# Altium footprint library imu.PcbLib: 43 footprints (part 1 of 3)
Each footprint in its own frame and in the unit in brackets; x right, y up, seen from the top. Pads: shape width x height; smd on the part's side, far side on the other; paste and mask are expansions set on the pad; w line width, h text height; cw(c..) or ccw(c..) is an arc to the next point about the centre after c.
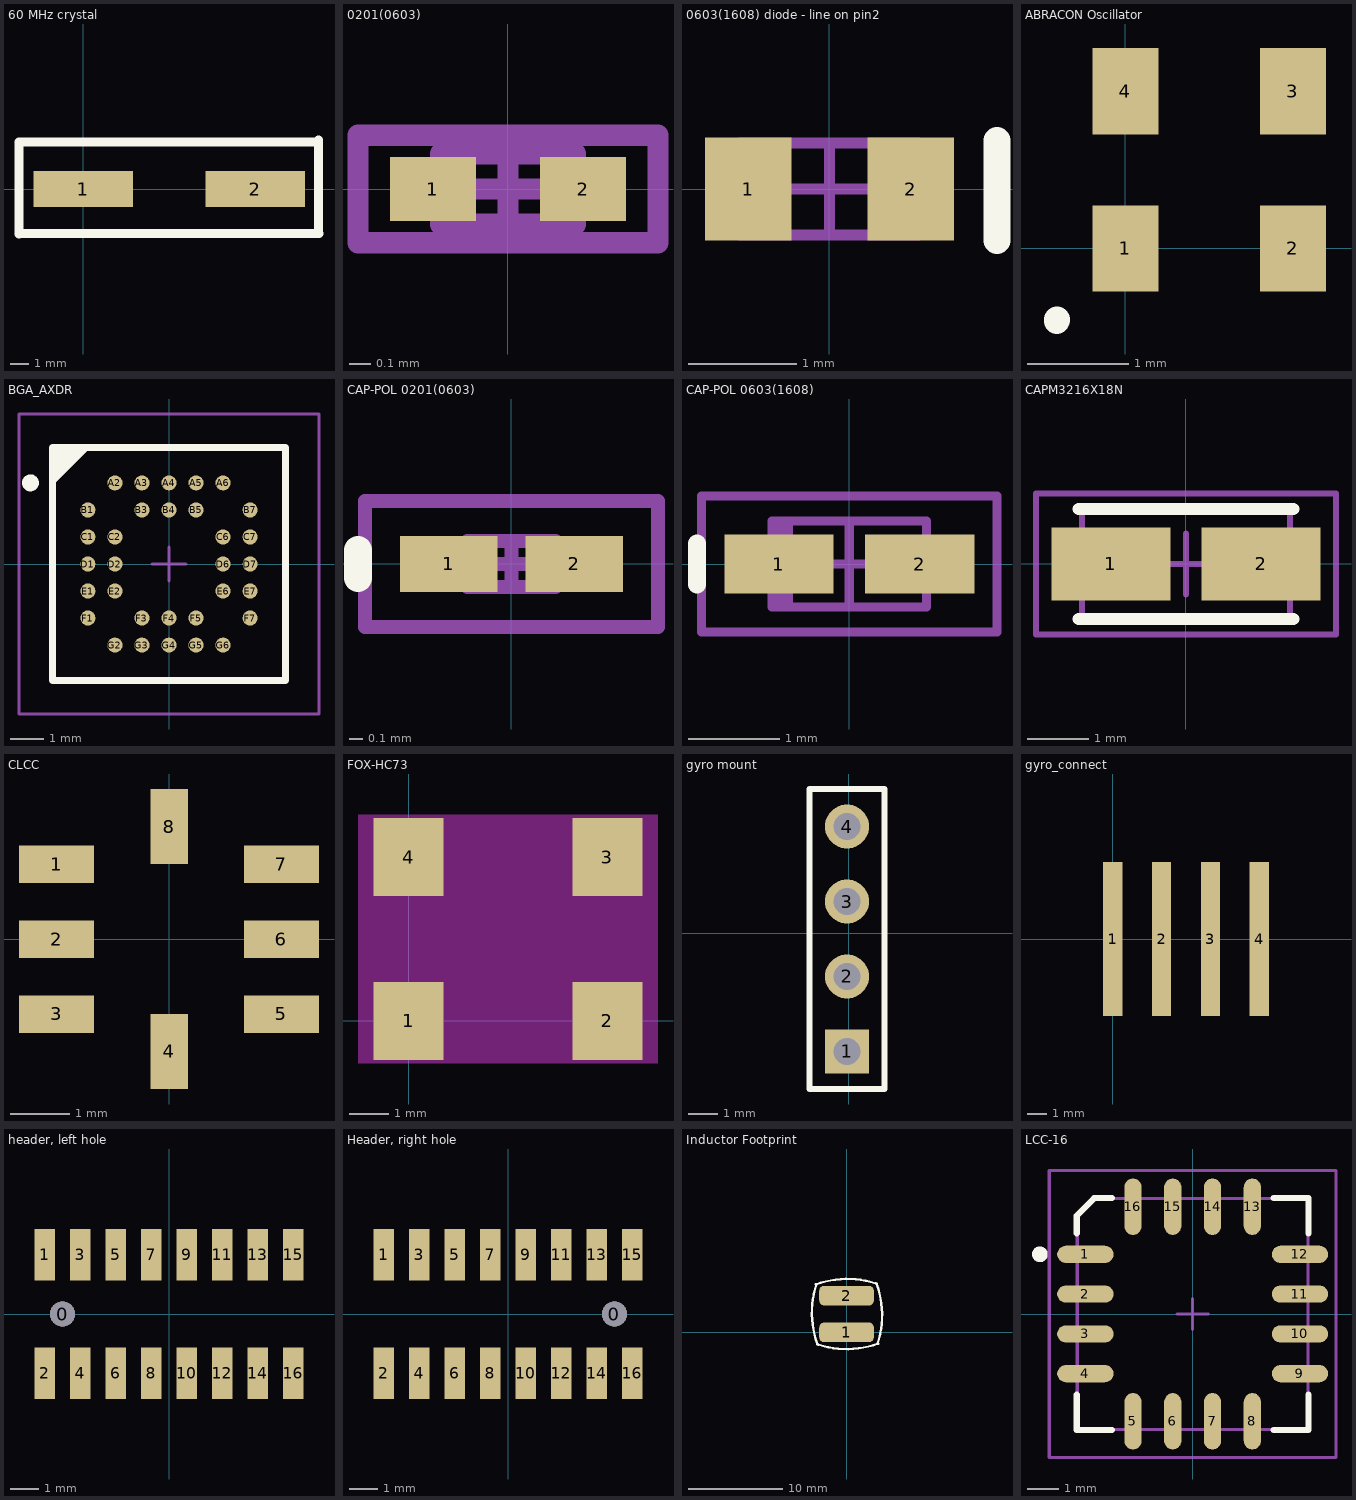
[diagram p0: the footprints below, top view; thin cyan lines are the x and y axes]

## 60 MHz crystal [mm] "887-1078-1-ND"
height 4
pads (2):
  rect 5.5x2 smd: 1(0,0) 2(9.5,0)
Top Overlay:
  lines w0.5: -3.55,-2.475 -3.525,-2.45 13.025,-2.45 13,-2.425 13,2.7 12.9,2.6 -3.55,2.6 -3.55,-2.475
3D body: height 4, standoff 0, extent -1.45,-2.475 10.85,2.425

## 0201(0603) [mm] "Chip 2-Leads, Body 0.6x0.3mm, IPC High Density"
height 0.26
pads (2):
  rect 0.4x0.3 smd: 1(-0.35,0) 2(0.35,0)
Mechanical 13:
  lines w0.1: -0.315,-0.165 -0.315,0.165 0.315,0.165 0.315,-0.165 -0.315,-0.165
Mechanical 15:
  lines w0.1: -0.165,0 0.165,0 ; 0,-0.165 0,0.165 ; -0.7,-0.25 -0.7,0.25 0.7,0.25 0.7,-0.25 -0.7,-0.25
3D body: height 0.26, standoff 0, extent -0.315,-0.165 0.315,0.165

## 0603(1608) diode - line on pin2 [mm]
height 1
pads (2):
  rect 0.8x0.95 smd mask+0: 1(-0.75,0) 2(0.75,0)
Top Overlay:
  lines w0.25: 1.55,-0.475 1.55,0.45
Mechanical 13:
  lines w0.1: -0.825,-0.425 -0.825,0.425 0.825,0.425 0.825,-0.425 -0.825,-0.425
Mechanical 15:
  lines w0.1: -0.425,0 0.425,0 ; 0,-0.425 0,0.425
3D body: height 0.55, standoff 0, extent 0.475,-0.425 0.775,0.425
3D body: height 0.55, standoff 0, extent -0.775,-0.425 -0.475,0.425
3D body: height 0.53, standoff 0.03, extent -0.525,-0.412 0.525,0.413

## ABRACON Oscillator [mm]
pads (4):
  rect 0.65x0.85 smd: 1(0,0) 2(1.65,0) 3(1.65,1.55) 4(0,1.55)
Top Overlay:
  lines w0.254: -0.676,-0.714 ccw(c-0.778,-0.7) -0.675,-0.7
3D body: height 0.85, standoff 0, extent -0.48,-0.36 2.195,1.91

## BGA_AXDR [mm] "From AXDRS622 Datasheet"
height 3.8
pads (32):
  round 0.45 smd: A2(-1.6,2.4) A3(-0.8,2.4) A4(0,2.4) A5(0.8,2.4) A6(1.6,2.4) B1(-2.4,1.6) B3(-0.8,1.6) B4(0,1.6) B5(0.8,1.6) B7(2.4,1.6) C1(-2.4,0.8) C2(-1.6,0.8) C6(1.6,0.8) C7(2.4,0.8) D1(-2.4,0) D2(-1.6,0) D6(1.6,0) D7(2.4,0) E1(-2.4,-0.8) E2(-1.6,-0.8) E6(1.6,-0.8) E7(2.4,-0.8) F1(-2.4,-1.6) F3(-0.8,-1.6) F4(0,-1.6) F5(0.8,-1.6) F7(2.4,-1.6) G2(-1.6,-2.4) G3(-0.8,-2.4) G4(0,-2.4) G5(0.8,-2.4) G6(1.6,-2.4)
Top Overlay:
  circle w0.25: c-4.1,2.4 r0.125
  region: -2.45,3.45 -3.45,2.45 -3.45,3.45
  lines w0.2: -3.45,2.45 -2.45,3.45 ; -3.45,-3.45 -3.45,3.45 3.45,3.45 3.45,-3.45 -3.45,-3.45
Mechanical 13:
  lines w0.1: -3.45,-3.45 -3.45,3.45 3.45,3.45 3.45,-3.45 -3.45,-3.45
Mechanical 15:
  lines w0.1: -0.5,0 0.5,0 ; 0,-0.5 0,0.5 ; -4.437,-4.437 -4.437,4.437 4.437,4.437 4.437,-4.437 -4.437,-4.437
3D body: height 3.8, standoff 0.6, extent -3.45,-3.45 3.45,3.45

## CAP-POL 0201(0603) [mm] "Chip Capacitor, 2-Leads, Body 0.6x0.3mm, IPC Medium Density"
height 0.6
pads (2):
  rect 0.7x0.4 smd: 1(-0.45,0) 2(0.45,0)
Top Overlay:
  lines w0.2: -1.1,-0.1 -1.1,0.1
Mechanical 13:
  lines w0.1: -0.315,-0.165 0.315,-0.165 0.315,0.165 -0.315,0.165 -0.315,-0.165
Mechanical 15:
  lines w0.1: -0.165,0 0.165,0 ; 0,-0.165 0,0.165 ; -1.05,-0.45 1.05,-0.45 1.05,0.45 -1.05,0.45 -1.05,-0.45
3D body: height 0.6, standoff 0, extent -0.315,-0.165 0.315,0.165

## CAP-POL 0603(1608) [mm] "Molded Capacitor, 2-Leads, Body 1.6x0.8mm, IPC Medium Density"
height 0.9
pads (2):
  rect 1.2x0.65 smd: 1(-0.775,0) 2(0.775,0)
Top Overlay:
  lines w0.2: -1.675,-0.225 -1.675,0.225
Mechanical 13:
  rectangle: -0.85,-0.475 -0.621,0.475
  lines w0.1: -0.85,-0.475 0.85,-0.475 0.85,0.475 -0.85,0.475 -0.85,-0.475
Mechanical 15:
  lines w0.1: -0.475,0 0.475,0 ; 0,-0.475 0,0.475 ; -1.625,-0.75 1.625,-0.75 1.625,0.75 -1.625,0.75 -1.625,-0.75
3D body: height 0.9, standoff 0, extent -0.85,-0.475 0.85,0.475

## CAPM3216X18N [mm] "Molded Capacitor, 2-Leads, Body 3.2x1.6mm, IPC Medium Density"
height 1.8
pads (2):
  rect 1.95x1.2 smd: 1(-1.225,0) 2(1.225,0)
Top Overlay:
  lines w0.2: -1.75,-0.9 1.75,-0.9 ; -1.75,0.9 1.75,0.9
Mechanical 13:
  lines w0.1: -1.7,-0.9 -1.7,0.9 1.7,0.9 1.7,-0.9 -1.7,-0.9
Mechanical 15:
  lines w0.1: -0.5,0 0.5,0 ; 0,-0.5 0,0.5 ; -2.45,-1.15 -2.45,1.15 2.45,1.15 2.45,-1.15 -2.45,-1.15
3D body: height 1.8, standoff 0, extent -1.7,-0.9 1.7,0.9

## CLCC [mm] "from ADXL103"
pads (8):
  rect 1.27x0.635 smd: 1(-1.905,1.27) 2(-1.905,0) 3(-1.905,-1.27) 5(1.905,-1.27) 6(1.905,0) 7(1.905,1.27)
  rect 0.635x1.27 smd: 4(0,-1.905) 8(0,1.905)

## FOX-HC73 [mm] "footprint for oscillator"
pads (4):
  rect 1.8x2 smd: 1(0,0) 2(5.1,0) 3(5.1,4.2) 4(0,4.2)
Keep-Out Layer:
  rectangle: -1.3,-1.1 6.4,5.3

## gyro mount [mm] "100 mil header for mounting gyro board to imu"
pads (4):
  rect 1.5x1.5 hole 0.9 mask+0.1: 1(-0.051,-4.013)
  round 1.5 hole 0.9 mask+0.1: 2(-0.051,-1.473) 3(-0.051,1.067) 4(-0.051,3.607)
Top Overlay:
  lines w0.2: -1.321,-5.283 1.219,-5.283 1.219,4.877 -1.321,4.877 -1.321,-5.283
3D body: height 13.27, standoff 2, extent -2.35,-6.1 -0.575,5.75
3D body: height 10, standoff 0, extent -0.55,3.125 0.475,4.1
3D body: height 10, standoff 0, extent -0.55,0.585 0.475,1.56
3D body: height 10, standoff 0, extent -0.55,-1.955 0.475,-0.98
3D body: height 10, standoff 0, extent -0.55,-4.495 0.475,-3.52
3D body: height 2, standoff 0, extent -1.225,-5.175 1.125,4.775
3D body: height 11, standoff 4, extent -6.275,-4.1 -2.35,3.6

## gyro_connect [mm] "the sides of male header pins (100mil pitch) will be soldered to the gyro board to attach it"
pads (4):
  rect 1x8 smd: 1(0,0) 2(2.54,0) 3(5.08,0) 4(7.62,0)

## header, left hole [mm]
pads (17):
  round 0.9 hole 0.9: 0(-3.81,0)
  rect 0.74x1.85 smd: 1(-4.445,2.125) 2(-4.445,-2.125) 3(-3.175,2.125) 4(-3.175,-2.125) 5(-1.905,2.125) 6(-1.905,-2.125) 7(-0.635,2.125) 8(-0.635,-2.125) 9(0.635,2.125) 10(0.635,-2.125) 11(1.905,2.125) 12(1.905,-2.125) 13(3.175,2.125) 14(3.175,-2.125) 15(4.445,2.125) 16(4.445,-2.125)

## Header, right hole [mm]
pads (17):
  round 0.9 hole 0.9: 0(3.81,0)
  rect 0.74x1.85 smd: 1(-4.445,2.125) 2(-4.445,-2.125) 3(-3.175,2.125) 4(-3.175,-2.125) 5(-1.905,2.125) 6(-1.905,-2.125) 7(-0.635,2.125) 8(-0.635,-2.125) 9(0.635,2.125) 10(0.635,-2.125) 11(1.905,2.125) 12(1.905,-2.125) 13(3.175,2.125) 14(3.175,-2.125) 15(4.445,2.125) 16(4.445,-2.125)

## Inductor Footprint [mm] "SDR0604-101KLCT-ND"
pads (2):
  rrect50% 5.8x2.1 smd: 1(0,0) 2(0,3.9)
Top Overlay:
  lines w0.254: -3.263,5.091 cw(c0.077,-4.155) 3.1,5.2 ; -3.2,5.1 ccw(c6.155,2.077) -3.091,-1.263 ; -3,-1.3 ccw(c0.023,8.055) 3.363,-1.191 ; 3.191,5.163 cw(c-6.055,1.823) 3.3,-1.2

## LCC-16 [mm] "HCM1053"
height 2.8
pads (16):
  oval 1.8x0.55 smd: 1(-3.425,1.905) 2(-3.425,0.635) 3(-3.425,-0.635) 4(-3.425,-1.905) 9(3.425,-1.905) 10(3.425,-0.635) 11(3.425,0.635) 12(3.425,1.905)
  oval 0.55x1.8 smd: 5(-1.905,-3.425) 6(-0.635,-3.425) 7(0.635,-3.425) 8(1.905,-3.425) 13(1.905,3.425) 14(0.635,3.425) 15(-0.635,3.425) 16(-1.905,3.425)
Top Overlay:
  circle w0.25: c-4.875,1.905 r0.125
  lines w0.2: -3.7,-2.58 -3.7,-3.7 -2.58,-3.7 ; -3.7,2.58 -3.7,3.14 -3.14,3.7 -2.58,3.7 ; 2.58,-3.7 3.7,-3.7 3.7,-2.58 ; 2.58,3.7 3.7,3.7 3.7,2.58
Mechanical 13:
  lines w0.1: -3.685,-3.685 -3.685,3.125 -3.125,3.685 3.685,3.685 3.685,-3.685 -3.685,-3.685
Mechanical 15:
  lines w0.1: -0.5,0 0.5,0 ; 0,-0.5 0,0.5 ; -4.575,-4.575 -4.575,4.575 4.575,4.575 4.575,-4.575 -4.575,-4.575
3D body: height 2.8, standoff 0, extent -3.685,-3.685 3.685,3.685